# EAGLE library part ALPS_RK27112 (library alps_rk27_upd)
ALPS Tandempotentiometer RK27112
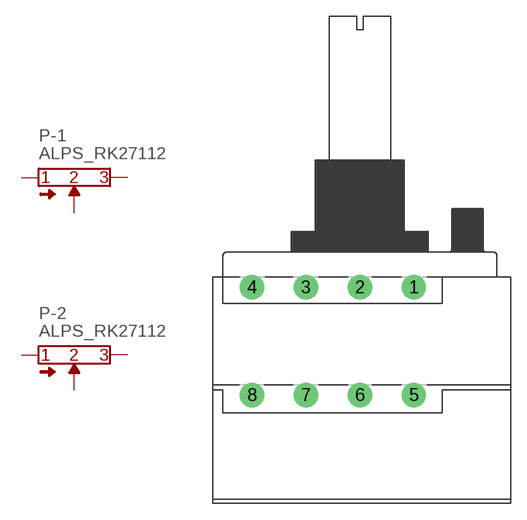
[diagram p0: symbol with the pads of ALPS_RK27112; footprint ALPS_RK27112]

Designator prefix P; gates -1=ALPS_RK27 -2=ALPS_RK27

## ALPS_RK27112  [ALPS_RK27112]
1  -1:1  pas
2  -1:2  pas
3  -1:3  pas
4  -1:4  pas
5  -2:1  pas
6  -2:2  pas
7  -2:3  pas
8  -2:4  pas

## Footprint ALPS_RK27112 (pad centres in mm)
ALPS RK27112 tandem potentiometer
drill 1.5: 1 5,5; 2 0,5; 3 -5,5; 4 -10,5; 5 5,-5; 6 0,-5; 7 -5,-5; 8 -10,-5